# EAGLE library part ZDM-A1281-A2 (library atmel)
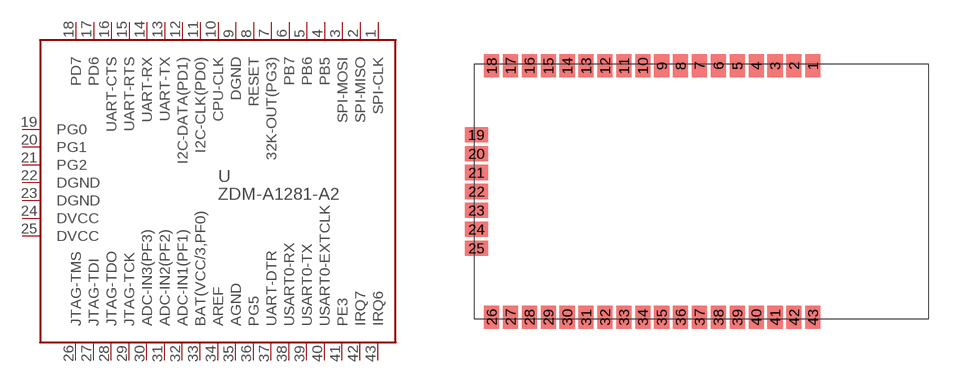
[diagram p66: symbol with the pads of ZIGBITA2; footprint ZIGBITA2]

Designator prefix -

## ZDM-A1281-A2  [ZIGBITA2]
1  SPI-CLK
2  SPI-MISO
3  SPI-MOSI
4  PB5
5  PB6
6  PB7
7  32K-OUT(PG3)
8  RESET
9  DGND
10  CPU-CLK
11  I2C-CLK(PD0)
12  I2C-DATA(PD1)
13  UART-TX
14  UART-RX
15  UART-RTS
16  UART-CTS
17  PD6
18  PD7
19  PG0
20  PG1
21  PG2
22  DGND
23  DGND
24  DVCC
25  DVCC
26  JTAG-TMS
27  JTAG-TDI
28  JTAG-TDO
29  JTAG-TCK
30  ADC-IN3(PF3)
31  ADC-IN2(PF2)
32  ADC-IN1(PF1)
33  BAT(VCC/3,PF0)
34  AREF
35  AGND
36  PG5
37  UART-DTR
38  USART0-RX
39  USART0-TX
40  USART0-EXTCLK
41  PE3
42  IRQ7
43  IRQ6

## Footprint ZIGBITA2 (pad centres in mm)
smd 0.8 x 1.2: 1 7.4,7.4; 2 6.4,7.4; 3 5.4,7.4; 4 4.4,7.4; 5 3.4,7.4; 6 2.4,7.4; 7 1.4,7.4; 8 0.4,7.4; 9 -0.6,7.4; 10 -1.6,7.4; 11 -2.6,7.4; 12 -3.6,7.4; 13 -4.6,7.4; 14 -5.6,7.4; 15 -6.6,7.4; 16 -7.6,7.4; 17 -8.6,7.4; 18 -9.6,7.4; 26 -9.6,-5.9; 27 -8.6,-5.9; 28 -7.6,-5.9; 29 -6.6,-5.9; 30 -5.6,-5.9; 31 -4.6,-5.9; 32 -3.6,-5.9; 33 -2.6,-5.9; 34 -1.6,-5.9; 35 -0.6,-5.9; 36 0.4,-5.9; 37 1.4,-5.9; 38 2.4,-5.9; 39 3.4,-5.9; 40 4.4,-5.9; 41 5.4,-5.9; 42 6.4,-5.9; 43 7.4,-5.9
smd 1.2 x 0.8: 19 -10.4,3.75; 20 -10.4,2.75; 21 -10.4,1.75; 22 -10.4,0.75; 23 -10.4,-0.25; 24 -10.4,-1.25; 25 -10.4,-2.25